# Altium integrated library LDSC512RI.IntLib: 1 symbol
Pins are listed as number, name and electrical type; pins without a type are passive.

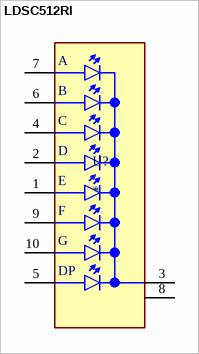
[diagram p0: symbol LDSC512RI]

## LDSC512RI
designator U?
DISPLAY, 7 SEGMENT, 14.2MM, GREEN; LED Colour:Green; Forward Current If:10mA; Forward Voltage:2.2V; Luminous Intensity:3.5mcd; No. of Digits / Alpha:1; Character Size:14.2mm; Common Connection:Common Cathode; Product Range:-; SVHC:No SVHC (27-Jun-2018); MF: Lumex Optoelectronics; MP: LDSC512RI; SnapEDA_Link: https://www.snapeda.com/parts/LDSC512RI/Lumex/view-part/?ref=snap; Package: DIP-10 Lumex; Value: *; Check_prices: https://www.snapeda.com/parts/LDSC512RI/Lumex/view-part/?ref=eda
footprint LED_LDSC512RI
pins: 1 E, 2 D, 3 CC, 4 C, 5 DP, 6 B, 7 A, 8 CC, 9 F, 10 G